# Altium footprint library AP6210_PCB.PcbLib: 4 footprints
Each footprint in its own frame and in the unit in brackets; x right, y up, seen from the top. Pads: shape width x height; smd on the part's side, far side on the other; paste and mask are expansions set on the pad; w line width, h text height; cw(c..) or ccw(c..) is an arc to the next point about the centre after c.
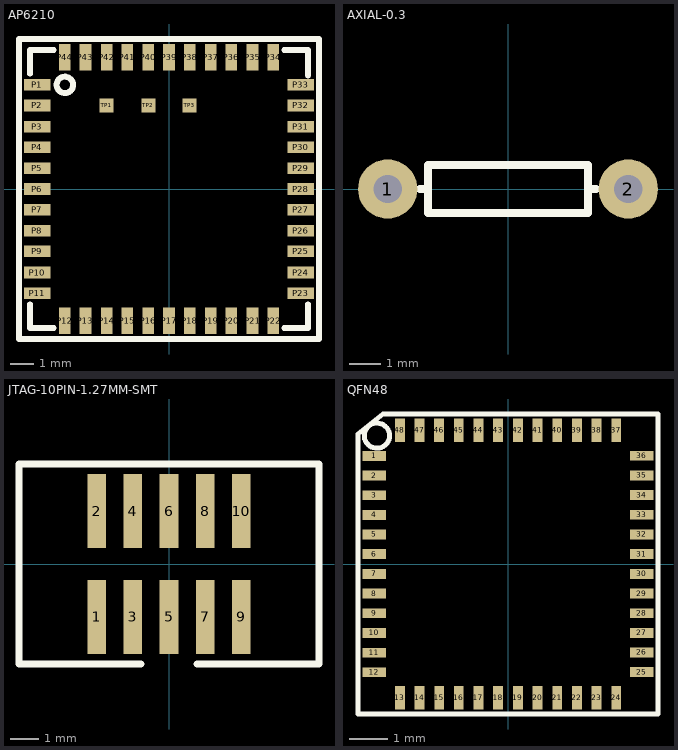
[diagram p0: the footprints below, top view; thin cyan lines are the x and y axes]

## AP6210 [mil]
pads (47):
  rect 44.3x19.7 smd: P1(-224,177) P2(-224,142) P3(-224,106) P4(-224,71) P5(-224,35) P6(-224,0) P7(-224,-35) P8(-224,-71) P9(-224,-106) P10(-224,-142) P11(-224,-177) P23(224,-177) P24(224,-142) P25(224,-106) P26(224,-71) P27(224,-35) P28(224,0) P29(224,35) P30(224,71) P31(224,106) P32(224,142) P33(224,177)
  rect 19.7x44.3 smd: P12(-177,-224) P13(-142,-224) P14(-106,-224) P15(-71,-224) P16(-35,-224) P17(0,-224) P18(35,-224) P19(71,-224) P20(106,-224) P21(142,-224) P22(177,-224) P34(177,224) P35(142,224) P36(106,224) P37(71,224) P38(35,224) P39(0,224) P40(-35,224) P41(-71,224) P42(-106,224) P43(-142,224) P44(-177,224)
  rect 23.6x23.6 smd: TP1(-106,142) TP2(-35,142) TP3(35,142)
Top Overlay:
  circle w10: c-177,177 r14
  lines w10: -236,-196 -236,-236 -196,-236 ; -236,196 -236,236 -196,236 ; 196,-236 236,-236 236,-196 ; 196,236 236,236 236,193 ; -255,-255 255,-255 255,255 -255,255 -255,-255

## AXIAL-0.3 [mil]
pads (2):
  round 74 hole 35.4: 1(-150,0) 2(150,0)
Top Overlay:
  lines w10: -110,0 -100,0 ; 110,0 100,0 ; -100,0 -100,30 100,30 100,0 ; -100,0 -100,-30 100,-30 100,0

## JTAG-10PIN-1.27MM-SMT [mil]
pads (10):
  rect 25.6x102.4 smd: 1(-100,-73) 2(-100,73) 3(-50,-73) 4(-50,73) 5(0,-73) 6(0,73) 7(50,-73) 8(50,73) 9(100,-73) 10(100,73)
Top Overlay:
  lines w10: -39,-138 -207,-138 -207,138 207,138 207,-138 39,-138

## QFN48 [mil]
pads (48):
  rect 24x10 smd: 1(-135.9,109.9) 2(-135.9,89.9) 3(-135.9,69.9) 4(-135.9,49.9) 5(-135.9,30) 6(-135.9,10) 7(-135.9,-10.1) 8(-135.9,-30.1) 9(-135.9,-50.1) 10(-135.9,-70.1) 11(-135.9,-90.1) 12(-135.9,-110) 25(135.9,-109.9) 26(136,-89.9) 27(136,-70) 28(136,-50) 29(136,-30) 30(136,-10) 31(136,10.1) 32(136,30.1) 33(135.9,50.1) 34(135.9,70) 35(135.9,90) 36(135.9,110)
  rect 10x24 smd: 13(-109.9,-136) 14(-89.9,-136) 15(-69.9,-136) 16(-50,-136) 17(-30,-136) 18(-10.1,-136) 19(10,-136) 20(30,-136) 21(50,-136) 22(70,-136) 23(90,-136) 24(110,-136) 37(110,135.9) 38(90,135.9) 39(70,135.9) 40(50.1,135.9) 41(30.1,135.9) 42(10.1,135.9) 43(-10,135.9) 44(-30,135.9) 45(-50,135.9) 46(-70,135.9) 47(-89.9,135.9) 48(-109.9,135.9)
Top Overlay:
  circle w5.08: c-133.2,130.4 r12.8
  lines w5.08: -152.4,-152.4 -152.4,116.8 -152.4,132.1 -127,152.4 -116.8,152.4 152.4,152.4 152.4,-152.4 -152.4,-152.4